# Altium schematic symbol library SCH - MCU - STM32 - ST MICROELECTRONICS STM32F479V(G-I)TX LQFP100.SchLib: 1 symbol
Pins are listed as number, name and electrical type; pins without a type are passive.

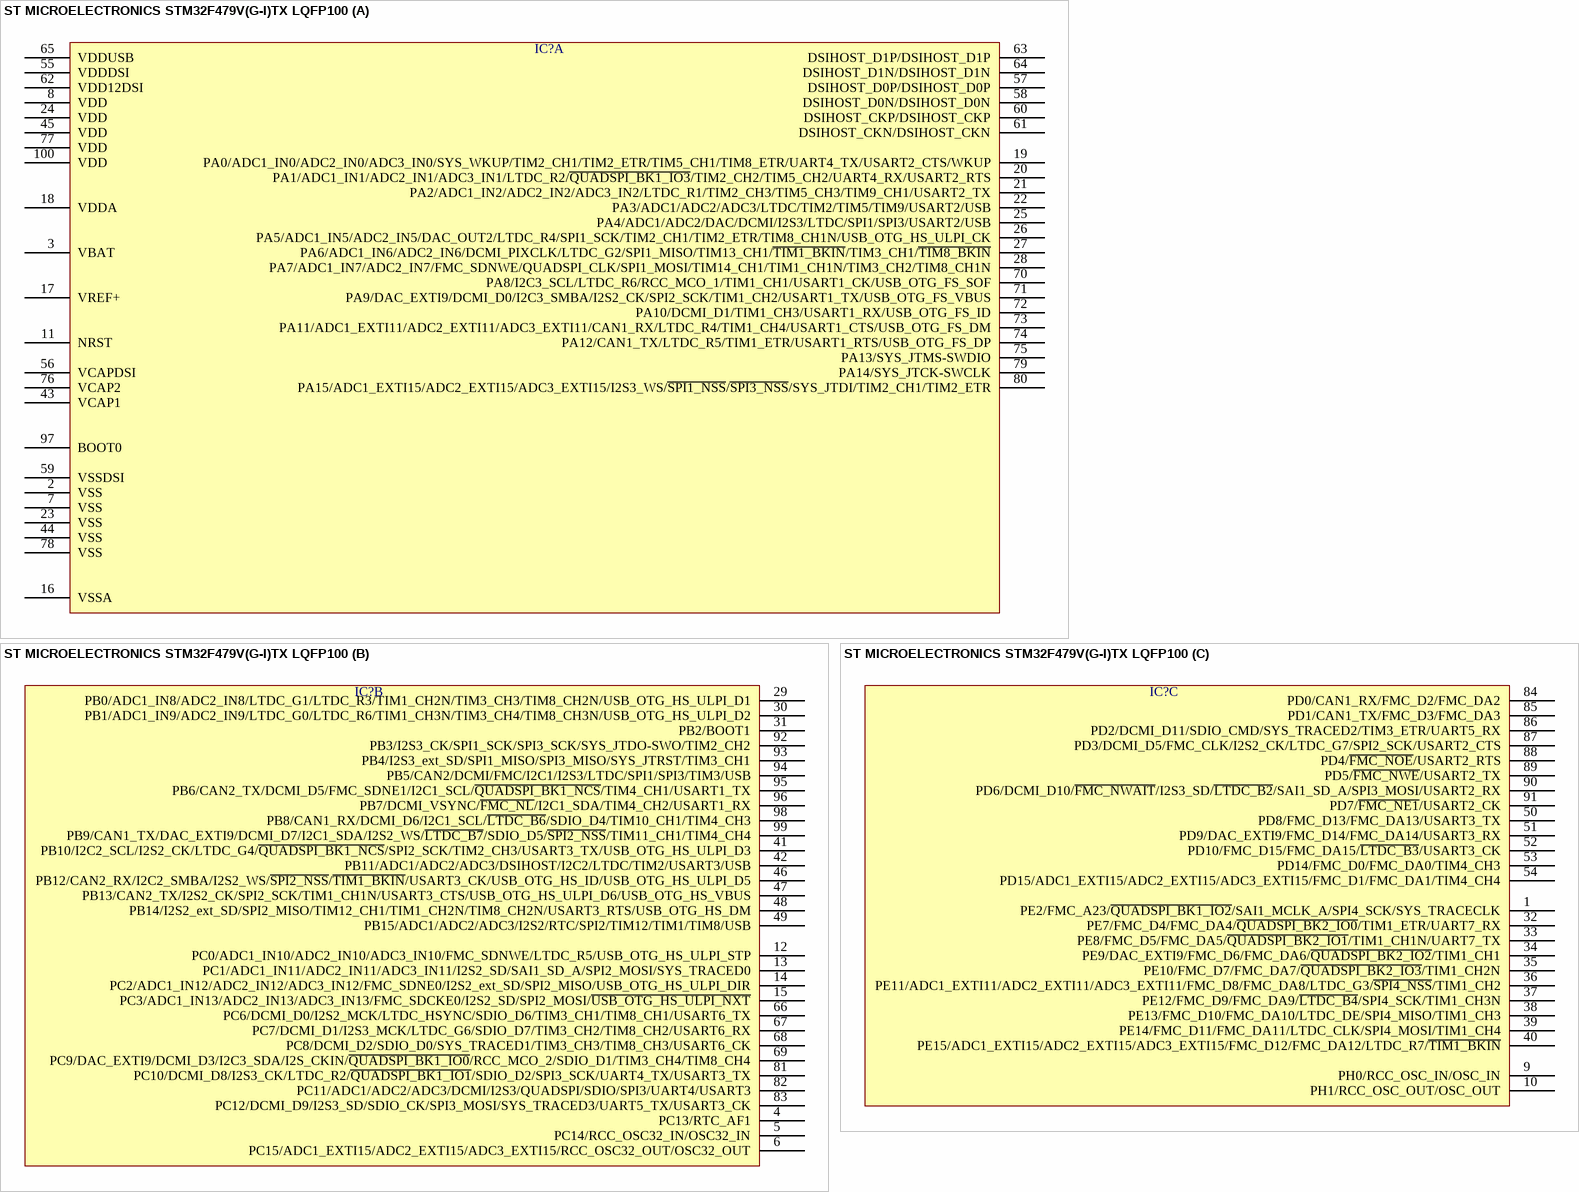
[diagram p0: symbol ST MICROELECTRONICS STM32F479V(G-I)TX LQFP100]

## ST MICROELECTRONICS STM32F479V(G-I)TX LQFP100
designator IC?  (value not drawn)
part A pins: 2 VSS, 3 VBAT, 7 VSS, 8 VDD, 11 NRST, 16 VSSA, 17 VREF+, 18 VDDA, 19 PA0/ADC1_IN0/ADC2_IN0/ADC3_IN0/SYS_WKUP/TIM2_CH1/TIM2_ETR/TIM5_CH1/TIM8_ETR/UART4_TX/USART2_CTS/WKUP, 20 PA1/ADC1_IN1/ADC2_IN1/ADC3_IN1/LTDC_R2/~{QUADSPI_BK1_IO3}/TIM2_CH2/TIM5_CH2/UART4_RX/USART2_RTS, 21 PA2/ADC1_IN2/ADC2_IN2/ADC3_IN2/LTDC_R1/TIM2_CH3/TIM5_CH3/TIM9_CH1/USART2_TX, 22 PA3/ADC1/ADC2/ADC3/LTDC/TIM2/TIM5/TIM9/USART2/USB, 23 VSS, 24 VDD, 25 PA4/ADC1/ADC2/DAC/DCMI/I2S3/LTDC/SPI1/SPI3/USART2/USB, 26 PA5/ADC1_IN5/ADC2_IN5/DAC_OUT2/LTDC_R4/SPI1_SCK/TIM2_CH1/TIM2_ETR/TIM8_CH1N/USB_OTG_HS_ULPI_CK, 27 PA6/ADC1_IN6/ADC2_IN6/DCMI_PIXCLK/LTDC_G2/SPI1_MISO/TIM13_CH1/~{TIM1_BKIN}/TIM3_CH1/~{TIM8_BKIN}, 28 PA7/ADC1_IN7/ADC2_IN7/FMC_SDNWE/QUADSPI_CLK/SPI1_MOSI/TIM14_CH1/TIM1_CH1N/TIM3_CH2/TIM8_CH1N, 43 VCAP1, 44 VSS, 45 VDD, 55 VDDDSI, 56 VCAPDSI, 57 DSIHOST_D0P/DSIHOST_D0P, 58 DSIHOST_D0N/DSIHOST_D0N, 59 VSSDSI, 60 DSIHOST_CKP/DSIHOST_CKP, 61 DSIHOST_CKN/DSIHOST_CKN, 62 VDD12DSI, 63 DSIHOST_D1P/DSIHOST_D1P, 64 DSIHOST_D1N/DSIHOST_D1N, 65 VDDUSB, 70 PA8/I2C3_SCL/LTDC_R6/RCC_MCO_1/TIM1_CH1/USART1_CK/USB_OTG_FS_SOF, 71 PA9/DAC_EXTI9/DCMI_D0/I2C3_SMBA/I2S2_CK/SPI2_SCK/TIM1_CH2/USART1_TX/USB_OTG_FS_VBUS, 72 PA10/DCMI_D1/TIM1_CH3/USART1_RX/USB_OTG_FS_ID, 73 PA11/ADC1_EXTI11/ADC2_EXTI11/ADC3_EXTI11/CAN1_RX/LTDC_R4/TIM1_CH4/USART1_CTS/USB_OTG_FS_DM, 74 PA12/CAN1_TX/LTDC_R5/TIM1_ETR/USART1_RTS/USB_OTG_FS_DP, 75 PA13/SYS_JTMS-SWDIO, 76 VCAP2, 77 VDD, 78 VSS, 79 PA14/SYS_JTCK-SWCLK, 80 PA15/ADC1_EXTI15/ADC2_EXTI15/ADC3_EXTI15/I2S3_WS/~{SPI1_NSS}/~{SPI3_NSS}/SYS_JTDI/TIM2_CH1/TIM2_ETR, 97 BOOT0, 100 VDD
part B pins: 4 PC13/RTC_AF1, 5 PC14/RCC_OSC32_IN/OSC32_IN, 6 PC15/ADC1_EXTI15/ADC2_EXTI15/ADC3_EXTI15/RCC_OSC32_OUT/OSC32_OUT, 12 PC0/ADC1_IN10/ADC2_IN10/ADC3_IN10/FMC_SDNWE/LTDC_R5/USB_OTG_HS_ULPI_STP, 13 PC1/ADC1_IN11/ADC2_IN11/ADC3_IN11/I2S2_SD/SAI1_SD_A/SPI2_MOSI/SYS_TRACED0, 14 PC2/ADC1_IN12/ADC2_IN12/ADC3_IN12/FMC_SDNE0/I2S2_ext_SD/SPI2_MISO/USB_OTG_HS_ULPI_DIR, 15 PC3/ADC1_IN13/ADC2_IN13/ADC3_IN13/FMC_SDCKE0/I2S2_SD/SPI2_MOSI/~{USB_OTG_HS_ULPI_NXT}, 29 PB0/ADC1_IN8/ADC2_IN8/LTDC_G1/LTDC_R3/TIM1_CH2N/TIM3_CH3/TIM8_CH2N/USB_OTG_HS_ULPI_D1, 30 PB1/ADC1_IN9/ADC2_IN9/LTDC_G0/LTDC_R6/TIM1_CH3N/TIM3_CH4/TIM8_CH3N/USB_OTG_HS_ULPI_D2, 31 PB2/BOOT1, 41 PB10/I2C2_SCL/I2S2_CK/LTDC_G4/~{QUADSPI_BK1_NCS}/SPI2_SCK/TIM2_CH3/USART3_TX/USB_OTG_HS_ULPI_D3, 42 PB11/ADC1/ADC2/ADC3/DSIHOST/I2C2/LTDC/TIM2/USART3/USB, 46 PB12/CAN2_RX/I2C2_SMBA/I2S2_WS/~{SPI2_NSS}/~{TIM1_BKIN}/USART3_CK/USB_OTG_HS_ID/USB_OTG_HS_ULPI_D5, 47 PB13/CAN2_TX/I2S2_CK/SPI2_SCK/TIM1_CH1N/USART3_CTS/USB_OTG_HS_ULPI_D6/USB_OTG_HS_VBUS, 48 PB14/I2S2_ext_SD/SPI2_MISO/TIM12_CH1/TIM1_CH2N/TIM8_CH2N/USART3_RTS/USB_OTG_HS_DM, 49 PB15/ADC1/ADC2/ADC3/I2S2/RTC/SPI2/TIM12/TIM1/TIM8/USB, 66 PC6/DCMI_D0/I2S2_MCK/LTDC_HSYNC/SDIO_D6/TIM3_CH1/TIM8_CH1/USART6_TX, 67 PC7/DCMI_D1/I2S3_MCK/LTDC_G6/SDIO_D7/TIM3_CH2/TIM8_CH2/USART6_RX, 68 PC8/DCMI_D2/SDIO_D0/SYS_TRACED1/TIM3_CH3/TIM8_CH3/USART6_CK, 69 PC9/DAC_EXTI9/DCMI_D3/I2C3_SDA/I2S_CKIN/~{QUADSPI_BK1_IO0}/RCC_MCO_2/SDIO_D1/TIM3_CH4/TIM8_CH4, 81 PC10/DCMI_D8/I2S3_CK/LTDC_R2/~{QUADSPI_BK1_IO1}/SDIO_D2/SPI3_SCK/UART4_TX/USART3_TX, 82 PC11/ADC1/ADC2/ADC3/DCMI/I2S3/QUADSPI/SDIO/SPI3/UART4/USART3, 83 PC12/DCMI_D9/I2S3_SD/SDIO_CK/SPI3_MOSI/SYS_TRACED3/UART5_TX/USART3_CK, 92 PB3/I2S3_CK/SPI1_SCK/SPI3_SCK/SYS_JTDO-SWO/TIM2_CH2, 93 PB4/I2S3_ext_SD/SPI1_MISO/SPI3_MISO/SYS_JTRST/TIM3_CH1, 94 PB5/CAN2/DCMI/FMC/I2C1/I2S3/LTDC/SPI1/SPI3/TIM3/USB, 95 PB6/CAN2_TX/DCMI_D5/FMC_SDNE1/I2C1_SCL/~{QUADSPI_BK1_NCS}/TIM4_CH1/USART1_TX, 96 PB7/DCMI_VSYNC/~{FMC_NL}/I2C1_SDA/TIM4_CH2/USART1_RX, 98 PB8/CAN1_RX/DCMI_D6/I2C1_SCL/~{LTDC_B6}/SDIO_D4/TIM10_CH1/TIM4_CH3, 99 PB9/CAN1_TX/DAC_EXTI9/DCMI_D7/I2C1_SDA/I2S2_WS/~{LTDC_B7}/SDIO_D5/~{SPI2_NSS}/TIM11_CH1/TIM4_CH4
part C pins: 1 PE2/FMC_A23/~{QUADSPI_BK1_IO2}/SAI1_MCLK_A/SPI4_SCK/SYS_TRACECLK, 9 PH0/RCC_OSC_IN/OSC_IN, 10 PH1/RCC_OSC_OUT/OSC_OUT, 32 PE7/FMC_D4/FMC_DA4/~{QUADSPI_BK2_IO0}/TIM1_ETR/UART7_RX, 33 PE8/FMC_D5/FMC_DA5/~{QUADSPI_BK2_IO1}/TIM1_CH1N/UART7_TX, 34 PE9/DAC_EXTI9/FMC_D6/FMC_DA6/~{QUADSPI_BK2_IO2}/TIM1_CH1, 35 PE10/FMC_D7/FMC_DA7/~{QUADSPI_BK2_IO3}/TIM1_CH2N, 36 PE11/ADC1_EXTI11/ADC2_EXTI11/ADC3_EXTI11/FMC_D8/FMC_DA8/LTDC_G3/~{SPI4_NSS}/TIM1_CH2, 37 PE12/FMC_D9/FMC_DA9/~{LTDC_B4}/SPI4_SCK/TIM1_CH3N, 38 PE13/FMC_D10/FMC_DA10/LTDC_DE/SPI4_MISO/TIM1_CH3, 39 PE14/FMC_D11/FMC_DA11/LTDC_CLK/SPI4_MOSI/TIM1_CH4, 40 PE15/ADC1_EXTI15/ADC2_EXTI15/ADC3_EXTI15/FMC_D12/FMC_DA12/LTDC_R7/~{TIM1_BKIN}, 50 PD8/FMC_D13/FMC_DA13/USART3_TX, 51 PD9/DAC_EXTI9/FMC_D14/FMC_DA14/USART3_RX, 52 PD10/FMC_D15/FMC_DA15/~{LTDC_B3}/USART3_CK, 53 PD14/FMC_D0/FMC_DA0/TIM4_CH3, 54 PD15/ADC1_EXTI15/ADC2_EXTI15/ADC3_EXTI15/FMC_D1/FMC_DA1/TIM4_CH4, 84 PD0/CAN1_RX/FMC_D2/FMC_DA2, 85 PD1/CAN1_TX/FMC_D3/FMC_DA3, 86 PD2/DCMI_D11/SDIO_CMD/SYS_TRACED2/TIM3_ETR/UART5_RX, 87 PD3/DCMI_D5/FMC_CLK/I2S2_CK/LTDC_G7/SPI2_SCK/USART2_CTS, 88 PD4/~{FMC_NOE}/USART2_RTS, 89 PD5/~{FMC_NWE}/USART2_TX, 90 PD6/DCMI_D10/~{FMC_NWAIT}/I2S3_SD/~{LTDC_B2}/SAI1_SD_A/SPI3_MOSI/USART2_RX, 91 PD7/~{FMC_NE1}/USART2_CK